# Altium footprint library PcbLib1.PcbLib: 14 footprints
Each footprint in its own frame and in the unit in brackets; x right, y up, seen from the top. Pads: shape width x height; smd on the part's side, far side on the other; paste and mask are expansions set on the pad; w line width, h text height; cw(c..) or ccw(c..) is an arc to the next point about the centre after c.
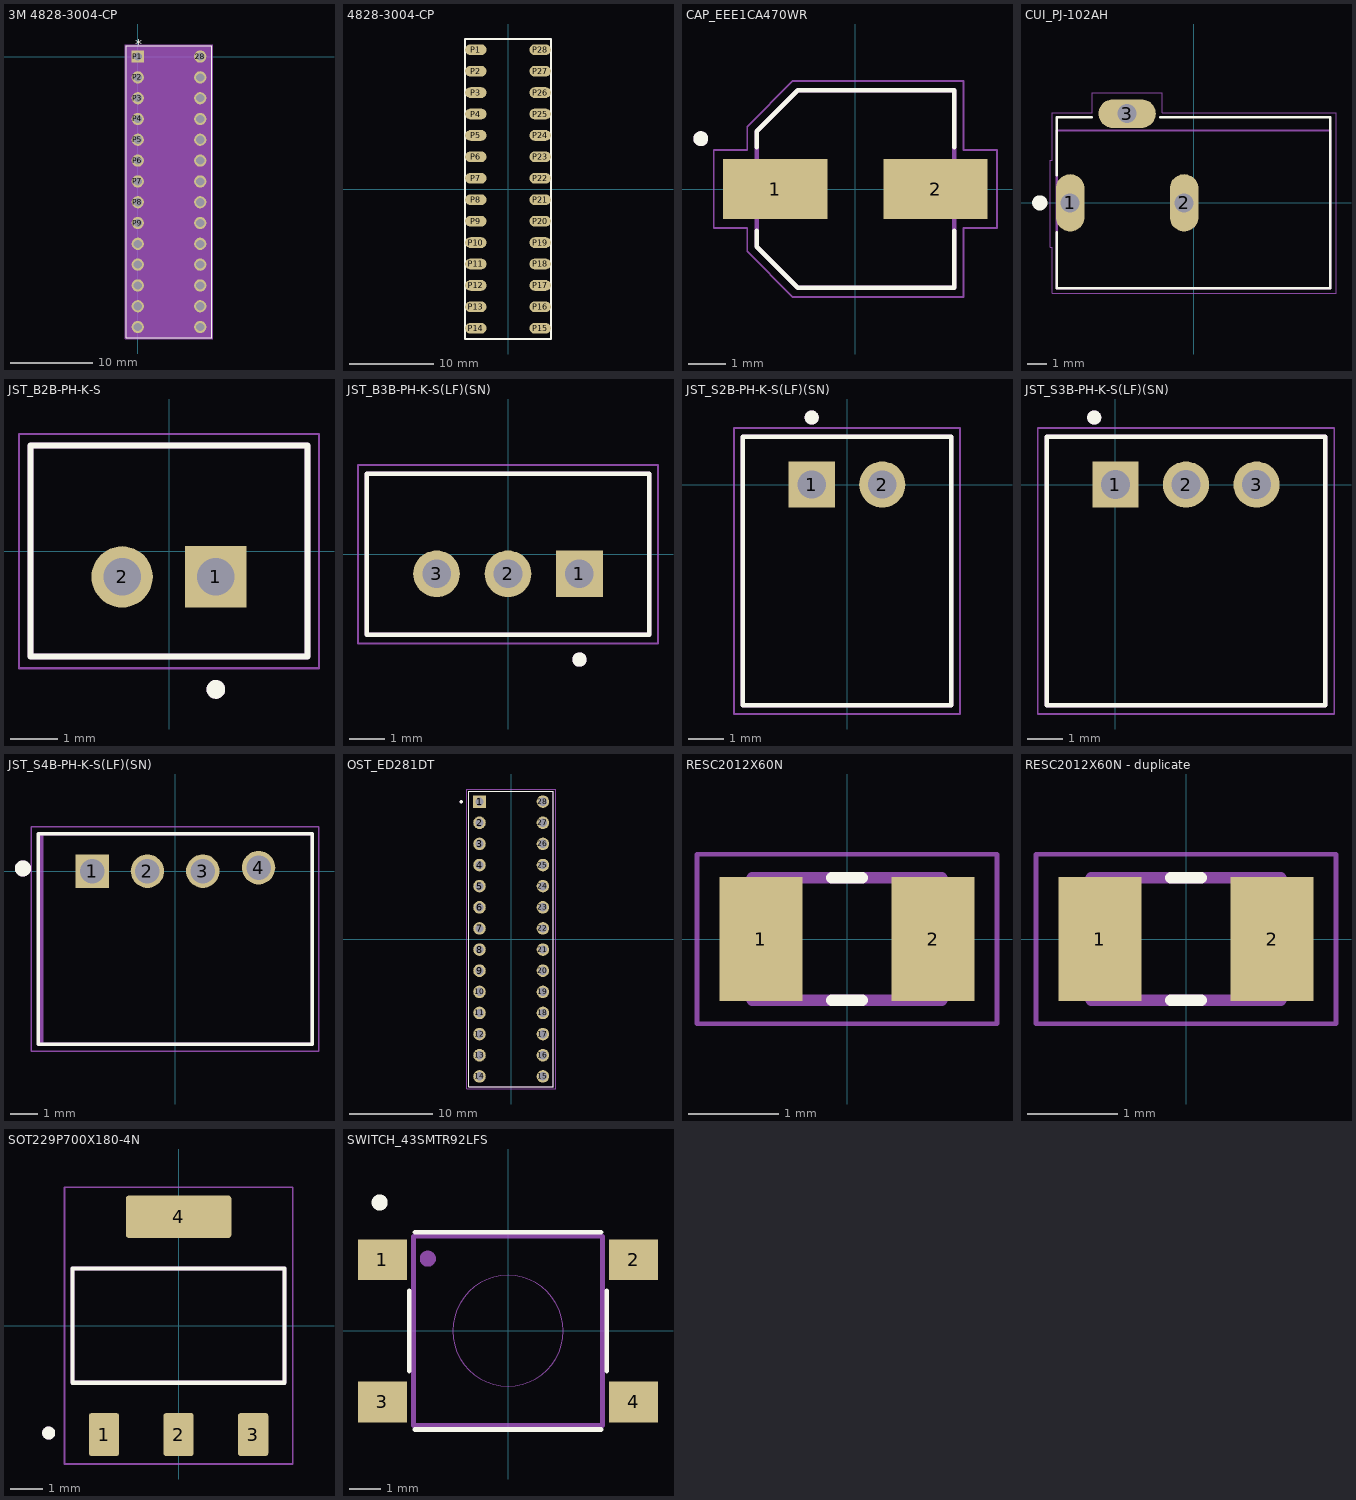
[diagram p0: the footprints below, top view; thin cyan lines are the x and y axes]

## 3M 4828-3004-CP [mil]
pads (28):
  round 59 / inner round 60 / far side round 59 hole 39 paste-29.5 mask+0: 28(300,0) P2(0,-100) P3(0,-200) P4(0,-300) P5(0,-400) P6(0,-500) P7(0,-600) P8(0,-700) P9(0,-800) P10(0,-900) P11(0,-1000) P12(0,-1100) P13(0,-1200) P14(0,-1300) P15(300,-1300) P16(300,-1200) P17(300,-1100) P18(300,-1000) P19(300,-900) P20(300,-800) P21(300,-700) P22(300,-600) P23(300,-500) P24(300,-400) P25(300,-300) P26(300,-200) P27(300,-100)
  rect 59x59 / inner round 60 / far side rect 59x59 hole 39 paste-29.5 mask+0: P1(0,0)
Top Overlay:
  lines w6: -55,-1352.5 355,-1352.5 355,52.5 -55,52.5 -55,-1352.5
  text "*" at -12.5,34.5 h50
Mechanical 13:
  lines w1: 138,47.5 150,35.5 162,47.5 ; -50,-1347.5 350,-1347.5 350,47.5 -50,47.5 -50,-1347.5 ; -50,-1319.5 -50,-1280.5 -19.5,-1280.5 -19.5,-1319.5 -50,-1319.5 ; -50,-1219.5 -50,-1180.5 -19.5,-1180.5 -19.5,-1219.5 -50,-1219.5 ; -50,-1119.5 -50,-1080.5 -19.5,-1080.5 -19.5,-1119.5 -50,-1119.5 ; -50,-1019.5 -50,-980.5 -19.5,-980.5 -19.5,-1019.5 -50,-1019.5 ; -50,-919.5 -50,-880.5 -19.5,-880.5 -19.5,-919.5 -50,-919.5 ; -50,-819.5 -50,-780.5 -19.5,-780.5 -19.5,-819.5 -50,-819.5 ; -50,-719.5 -50,-680.5 -19.5,-680.5 -19.5,-719.5 -50,-719.5 ; -50,-619.5 -50,-580.5 -19.5,-580.5 -19.5,-619.5 -50,-619.5 ; -50,-519.5 -50,-480.5 -19.5,-480.5 -19.5,-519.5 -50,-519.5 ; -50,-419.5 -50,-380.5 -19.5,-380.5 -19.5,-419.5 -50,-419.5 ; -50,-319.5 -50,-280.5 -19.5,-280.5 -19.5,-319.5 -50,-319.5 ; -50,-219.5 -50,-180.5 -19.5,-180.5 -19.5,-219.5 -50,-219.5 ; -50,-119.5 -50,-80.5 -19.5,-80.5 -19.5,-119.5 -50,-119.5 ; -50,-19.5 -50,19.5 -19.5,19.5 -19.5,-19.5 -50,-19.5 ; 319.5,-1319.5 350,-1319.5 350,-1280.5 319.5,-1280.5 319.5,-1319.5 ; 319.5,-1219.5 350,-1219.5 350,-1180.5 319.5,-1180.5 319.5,-1219.5 ; 319.5,-1119.5 350,-1119.5 350,-1080.5 319.5,-1080.5 319.5,-1119.5 ; 319.5,-1019.5 350,-1019.5 350,-980.5 319.5,-980.5 319.5,-1019.5 ; 319.5,-919.5 350,-919.5 350,-880.5 319.5,-880.5 319.5,-919.5 ; 319.5,-819.5 350,-819.5 350,-780.5 319.5,-780.5 319.5,-819.5 ; 319.5,-719.5 350,-719.5 350,-680.5 319.5,-680.5 319.5,-719.5 ; 319.5,-619.5 350,-619.5 350,-580.5 319.5,-580.5 319.5,-619.5 ; 319.5,-519.5 350,-519.5 350,-480.5 319.5,-480.5 319.5,-519.5 ; 319.5,-419.5 350,-419.5 350,-380.5 319.5,-380.5 319.5,-419.5 ; 319.5,-319.5 350,-319.5 350,-280.5 319.5,-280.5 319.5,-319.5 ; 319.5,-219.5 350,-219.5 350,-180.5 319.5,-180.5 319.5,-219.5 ; 319.5,-119.5 350,-119.5 350,-80.5 319.5,-80.5 319.5,-119.5 ; 319.5,-19.5 350,-19.5 350,19.5 319.5,19.5 319.5,-19.5
  text "*" at 42.5,-25.5 h50
Mechanical 15:
  region: 360,-1340 360,40 360,57.5 -60,57.5 -60,40 -60,-1340 -60,-1357.5 360,-1357.5
  lines w6: -60,-1357.5 -60,-1340 -60,40 -60,57.5 360,57.5 360,40 360,-1340 360,-1357.5 -60,-1357.5
3D body "4828-3004-CP.stp": height 180.31, standoff -143.7, extent -50,-1347.44 350,47.44

## 4828-3004-CP [mil]
pads (28):
  oval 100x50 hole 0.04: P1(-150,650) P2(-150,550) P3(-150,450) P4(-150,350) P5(-150,250) P6(-150,150) P7(-150,50) P8(-150,-50) P9(-150,-150) P10(-150,-250) P11(-150,-350) P12(-150,-450) P13(-150,-550) P14(-150,-650) P15(150,-650) P16(150,-550) P17(150,-450) P18(150,-350) P19(150,-250) P20(150,-150) P21(150,-50) P22(150,50) P23(150,150) P24(150,250) P25(150,350) P26(150,450) P27(150,550) P28(150,650)
Top Overlay:
  lines w10: -200,-700 -200,700 200,700 200,-700 -200,-700
3D body "4828-3004-CP.stp": height 180.31, standoff -143.7, extent -205,-687.44 195,707.44

## CAP_EEE1CA470WR [mm]
pads (2):
  rect 2.8x1.6 smd: 1(-2.15,0) 2(2.15,0)
Top Overlay:
  circle w0.2: c-4.15,1.35 r0.1
  lines w0.127: -2.65,-1.12 -2.65,-1.55 -1.55,-2.65 2.65,-2.65 2.65,-1.12 ; -2.65,1.12 -2.65,1.55 -1.55,2.65 2.65,2.65 2.65,1.12
Mechanical 13:
  circle w0.2: c-4.15,1.35 r0.1
  lines w0.127: -2.65,-1.55 -2.65,1.55 -1.55,2.65 2.65,2.65 2.65,-2.65 -1.55,-2.65 -2.65,-1.55
Mechanical 15:
  lines w0.05: -3.8,-1.05 -2.9,-1.05 -2.9,-1.675 -1.675,-2.9 2.9,-2.9 2.9,-1.05 3.8,-1.05 3.8,1.05 2.9,1.05 2.9,2.9 -1.675,2.9 -2.9,1.675 -2.9,1.05 -3.8,1.05 -3.8,-1.05
3D body "step_temp.STEP": height 5.8, standoff 0, extent -3,-2.65 3,2.65

## CUI_PJ-102AH [mm]
pads (3):
  oval 1.508x3.016 hole 1 square: 1(-6.5,0) 2(-0.5,0)
  oval 3.016x1.508 hole 1 square: 3(-3.5,4.7)
Top Overlay:
  circle w0.4: c-8.1,0 r0.2
  lines w0.127: -7.2,-1.55 -7.2,-4.5 7.2,-4.5 7.2,4.5 -1.75,4.5 ; -7.2,1.45 -7.2,4.5 -5.35,4.5
Mechanical 13:
  lines w0.127: -7.2,-4.5 7.2,-4.5 7.2,3.81 -7.2,3.81 -7.2,-4.5
Mechanical 15:
  lines w0.05: -7.55,-2.35 -7.55,2.25 -7.45,2.25 -7.45,4.75 -5.35,4.75 -5.35,5.8 -1.65,5.8 -1.65,4.75 7.5,4.75 7.5,-4.75 -7.45,-4.75 -7.45,-2.35 -7.55,-2.35
3D body "step_temp.STEP": height 11.26, standoff -3.24, extent -7.2,-4.574 7.2,4.826

## JST_B2B-PH-K-S [mm]
pads (2):
  rect 1.308x1.308 / inner round 1.308 / far side rect 1.308x1.308 hole 0.8: 1(1,-0.55)
  round 1.308 hole 0.8: 2(-1,-0.55)
Top Overlay:
  circle w0.2: c1,-2.95 r0.1
  lines w0.127: -2.95,-2.25 2.95,-2.25 2.95,2.25 -2.95,2.25 -2.95,-2.25
Mechanical 13:
  circle w0.2: c1,-2.95 r0.1
  lines w0.127: -2.95,-2.25 -2.95,2.25 2.95,2.25 2.95,-2.25 -2.95,-2.25
Mechanical 15:
  lines w0.05: -3.2,-2.5 -3.2,2.5 3.2,2.5 3.2,-2.5 -3.2,-2.5
3D body "step_temp.STEP": height 6, standoff -3.4, extent -2.95,-2.25 2.95,2.25

## JST_B3B-PH-K-S(LF)(SN) [mm]
pads (3):
  rect 1.308x1.308 / inner round 1.308 / far side rect 1.308x1.308 hole 0.8: 1(2,-0.55)
  round 1.308 hole 0.8: 2(0,-0.55) 3(-2,-0.55)
Top Overlay:
  circle w0.2: c2,-2.95 r0.1
  lines w0.127: -3.95,-2.25 3.95,-2.25 3.95,2.25 -3.95,2.25 -3.95,-2.25
Mechanical 13:
  circle w0.2: c2,-2.95 r0.1
  lines w0.127: -3.95,-2.25 -3.95,2.25 3.95,2.25 3.95,-2.25 -3.95,-2.25
Mechanical 15:
  lines w0.05: -4.2,-2.5 -4.2,2.5 4.2,2.5 4.2,-2.5 -4.2,-2.5
3D body "step_temp.STEP": height 6, standoff -3.4, extent -3.95,-2.25 3.95,2.25

## JST_S2B-PH-K-S(LF)(SN) [mm]
height 4.8
pads (2):
  rect 1.308x1.308 / inner round 1.308 / far side rect 1.308x1.308 hole 0.8: 1(-1,0)
  round 1.308 hole 0.8: 2(1,0)
Top Overlay:
  circle w0.2: c-1,1.9 r0.1
  lines w0.127: -2.95,-6.25 2.95,-6.25 2.95,1.35 -2.95,1.35 -2.95,-6.25
Mechanical 13:
  circle w0.2: c-1,1.9 r0.1
  lines w0.127: -2.95,-6.25 2.95,-6.25 2.95,1.35 -2.95,1.35 -2.95,-6.25
Mechanical 15:
  lines w0.05: -3.2,-6.5 3.2,-6.5 3.2,1.6 -3.2,1.6 -3.2,-6.5
3D body "step_temp.STEP": height 4.8, standoff -3.38, extent -2.95,-6.223 2.95,1.377

## JST_S3B-PH-K-S(LF)(SN) [mm]
pads (3):
  rect 1.308x1.308 hole 0.83: 1(0,0)
  round 1.308 hole 0.83: 2(2,0) 3(4,0)
Top Overlay:
  circle w0.2: c-0.6,1.9 r0.1
  lines w0.127: -1.95,-6.25 5.95,-6.25 5.95,1.35 -1.95,1.35 -1.95,-6.25
Mechanical 13:
  circle w0.2: c-0.6,1.9 r0.1
  lines w0.127: -1.95,-6.25 5.95,-6.25 5.95,1.35 -1.95,1.35 -1.95,-6.25
Mechanical 15:
  lines w0.05: -2.2,-6.5 -2.2,1.6 6.2,1.6 6.2,-6.5 -2.2,-6.5
3D body "S3B-PH-K-S-LF--SN---3DModel-STEP-56544.STEP": height 4.8, standoff -3.38, extent -1.918,-6.203 5.982,1.397

## JST_S4B-PH-K-S(LF)(SN) [mm]
pads (4):
  rect 1.208x1.208 hole 0.89: 1(-3,0)
  round 1.208 hole 0.89: 2(-1,0) 3(1,0) 4(3.016,0.127)
Top Overlay:
  circle w0.3: c-5.5,0.1 r0.141
  lines w0.127: -4.95,-6.25 4.95,-6.25 4.95,1.35 -4.95,1.35 -4.95,-6.25
Mechanical 13:
  circle w0.3: c-5.5,0.1 r0.141
  lines w0.127: -4.826,-6.25 -4.826,1.35 4.95,1.35 4.95,-6.25 -4.826,-6.25
Mechanical 15:
  lines w0.05: -5.2,-6.5 -5.2,1.6 5.2,1.6 5.2,-6.5 -5.2,-6.5
3D body "S4B-PH-K-S(LF)(SN)--3DModel-STEP-56544.STEP": height 4.8, standoff -3.38, extent -4.95,-6.223 4.95,1.377

## OST_ED281DT [mm]
pads (28):
  rect 1.508x1.508 / inner round 1.508 / far side rect 1.508x1.508 hole 1: 1(-3.81,16.51)
  round 1.508 hole 1: 2(-3.81,13.97) 3(-3.81,11.43) 4(-3.81,8.89) 5(-3.81,6.35) 6(-3.81,3.81) 7(-3.81,1.27) 8(-3.81,-1.27) 9(-3.81,-3.81) 10(-3.81,-6.35) 11(-3.81,-8.89) 12(-3.81,-11.43) 13(-3.81,-13.97) 14(-3.81,-16.51) 15(3.81,-16.51) 16(3.81,-13.97) 17(3.81,-11.43) 18(3.81,-8.89) 19(3.81,-6.35) 20(3.81,-3.81) 21(3.81,-1.27) 22(3.81,1.27) 23(3.81,3.81) 24(3.81,6.35) 25(3.81,8.89) 26(3.81,11.43) 27(3.81,13.97) 28(3.81,16.51)
Top Overlay:
  circle w0.2: c-6,16.5 r0.1
  lines w0.127: -5.08,-17.78 5.08,-17.78 5.08,17.78 -5.08,17.78 -5.08,-17.78
Mechanical 13:
  circle w0.2: c-6,16.5 r0.1
  lines w0.127: -5.08,-17.78 5.08,-17.78 5.08,17.78 -5.08,17.78 -5.08,-17.78
Mechanical 15:
  lines w0.05: -5.33,-18.03 5.33,-18.03 5.33,18.03 -5.33,18.03 -5.33,-18.03
3D body "step_temp.STEP": height 5.27, standoff -3.43, extent -5.08,-17.78 5.08,17.78

## RESC2012X60N [mm]
pads (2):
  rect 0.92x1.38 smd: 1(-0.955,0) 2(0.955,0)
Top Overlay:
  lines w0.127: -0.17,-0.68 0.17,-0.68 ; -0.17,0.68 0.17,0.68
Mechanical 13:
  lines w0.127: -1.05,-0.68 -1.05,0.68 1.05,0.68 1.05,-0.68 -1.05,-0.68
Mechanical 15:
  lines w0.05: -1.665,-0.94 -1.665,0.94 1.665,0.94 1.665,-0.94 -1.665,-0.94
3D body "step_temp.STEP": height 0.6, standoff 0, extent -1,-0.625 1,0.625

## RESC2012X60N - duplicate [mm]
pads (2):
  rect 0.92x1.38 smd: 1(-0.955,0) 2(0.955,0)
Top Overlay:
  lines w0.127: -0.17,-0.68 0.17,-0.68 ; -0.17,0.68 0.17,0.68
Mechanical 13:
  lines w0.127: -1.05,-0.68 1.05,-0.68 1.05,0.68 -1.05,0.68 -1.05,-0.68
Mechanical 15:
  lines w0.05: -1.665,-0.94 1.665,-0.94 1.665,0.94 -1.665,0.94 -1.665,-0.94
3D body "step_temp.STEP": height 0.6, standoff 0, extent -1,-0.625 1,0.625

## SOT229P700X180-4N [mm]
height 1.8
pads (4):
  rrect15% 0.93x1.31 smd: 1(-2.29,-3.345) 2(0,-3.345) 3(2.29,-3.345)
  rrect15% 3.24x1.31 smd: 4(0,3.345)
Top Overlay:
  circle w0.2: c-3.99,-3.3 r0.1
  lines w0.127: -3.253,-1.753 3.253,-1.753 3.253,1.753 -3.253,1.753 -3.253,-1.753
Mechanical 13:
  circle w0.2: c-3.99,-3.3 r0.1
  lines w0.127: -3.253,-1.753 3.253,-1.753 3.253,1.753 -3.253,1.753 -3.253,-1.753
Mechanical 15:
  lines w0.05: -3.502,-4.25 3.502,-4.25 3.502,4.25 -3.502,4.25 -3.502,-4.25
3D body "step_temp.STEP": height 1.8, standoff 0, extent -3.251,-3.499 3.251,3.499

## SWITCH_43SMTR92LFS [mil]
pads (4):
  rect 61x51 smd: 1(-156.5,88.58) 2(156.5,88.58) 3(-156.5,-88.58) 4(156.5,-88.58)
Top Overlay:
  lines w6: -123,-50 -123,50 ; -116,-123 116,-123 ; -116,123 116,123 ; 123,-50 123,50
  lines w10: -165,160 cw(c-160,160) -155,160 cw(c-160,160) -165,160
Bottom Overlay:
  lines w10: -165,160 cw(c-160,160) -155,160 cw(c-160,160) -165,160
Mechanical 13:
  lines w0: -69,0 cw(c0,0) 69,0 cw(c0,0) -69,0
  lines w6: -118,-118 -118,118 118,118 118,-118 -118,-118
  lines w10: -105,90 cw(c-100,90) -95,90 cw(c-100,90) -105,90
3D body "step_temp.STEP": height 169.29, standoff 0, extent -177.17,-118.11 177.17,118.11